# Altium footprint library CAPR750-450x950x1150.PcbLib: 1 footprints
Each footprint in its own frame and in the unit in brackets; x right, y up, seen from the top. Pads: shape width x height; smd on the part's side, far side on the other; paste and mask are expansions set on the pad; w line width, h text height; cw(c..) or ccw(c..) is an arc to the next point about the centre after c.
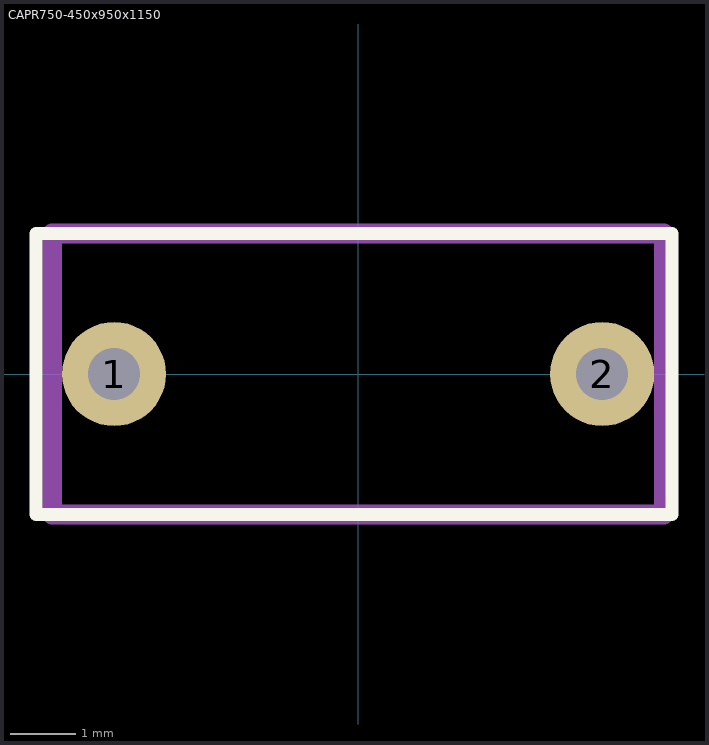
[diagram p0: the footprint, top view; thin cyan lines are the x and y axes]

## CAPR750-450x950x1150 [mm] "CAPR_pin_space-deep_x_weidth_x_height"
pads (2):
  round 1.6 hole 0.8: 1(-3.75,0) 2(3.75,0)
Top Overlay:
  lines w0.2: -4.953,-2.159 -4.953,2.159 4.826,2.159 4.826,-2.159 -4.953,-2.159
Mechanical 13:
  lines w0.3: -4.699,-2.159 -4.699,2.159 4.699,2.159 4.699,-2.159 -4.699,-2.159
  text ".Designator" at -3.302,-0.254 h1.52
3D body: height 12.25, standoff -2.25, extent -4.75,-2.25 4.75,2.25